# EAGLE library part MAX3371 (library BatteryBoard)
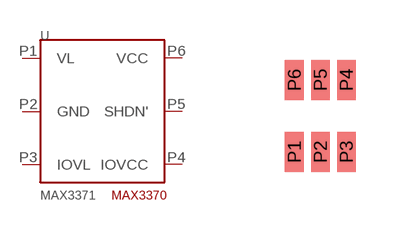
[diagram p1: symbol with the pads of 6-LEAD-SC70; footprint 6-LEAD-SC70]

Designator prefix -

## MAX3371LK  [6-LEAD-SC70]
P1  VL
P2  GND  pwr
P3  IOVL
P4  IOVCC  pwr
P5  SHDN'
P6  VCC  pwr

## Footprint 6-LEAD-SC70 (pad centres in mm)
smd 0.47 x 1: P1 -0.65,0; P2 0,0; P3 0.65,0; P4 0.65,1.8; P5 0,1.8; P6 -0.65,1.8